# Altium footprint library T5848.PcbLib: 1 footprints
Each footprint in its own frame and in the unit in brackets; x right, y up, seen from the top. Pads: shape width x height; smd on the part's side, far side on the other; paste and mask are expansions set on the pad; w line width, h text height; cw(c..) or ccw(c..) is an arc to the next point about the centre after c.
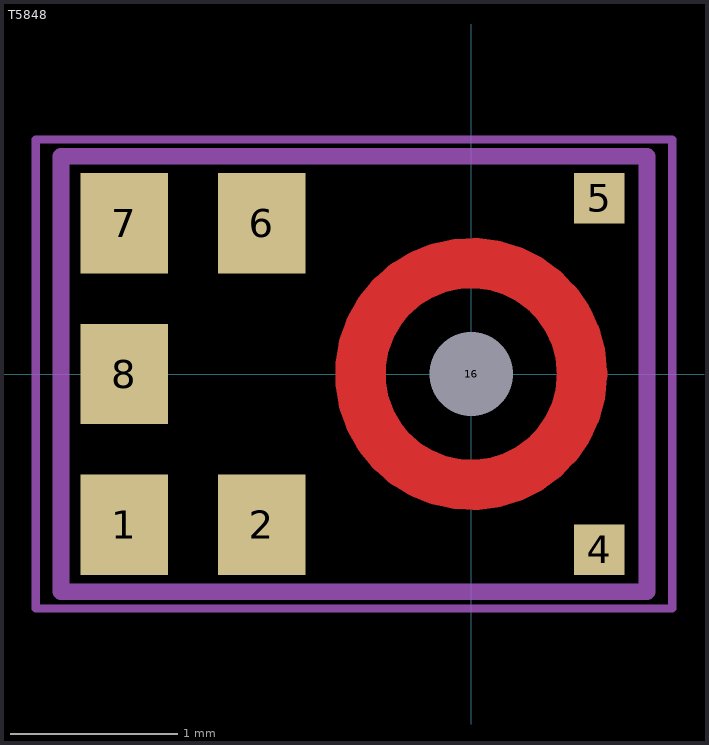
[diagram p0: the footprint, top view; thin cyan lines are the x and y axes]

## T5848 [mm]
pads (9):
  rect 0.522x0.6 smd: 1(-2.072,-0.9) 2(-1.252,-0.9) 6(-1.252,0.9) 7(-2.072,0.9) 8(-2.072,0)
  round 0 smd: 3(0,0)
  rect 0.3x0.3 smd: 4(0.765,-1.05) 5(0.765,1.05)
  round 0.1 hole 0.5: 16(0,0)
Top Layer:
  circle w0.3: c0,0 r0.663
Top Assembly:
  lines w0.1: -2.45,-1.3 1.05,-1.3 1.05,1.3 -2.45,1.3 -2.45,-1.3
Top Courtyard:
  lines w0.05: -2.6,-1.4 -2.6,1.4 1.2,1.4 1.2,-1.4 -2.6,-1.4
3D body "MMICT5848-00-012.STEP": height 0.98, standoff 0, extent -2.45,-1.325 1.05,1.325